# EAGLE library part AD8278 (library Eagle_CAD_parts)
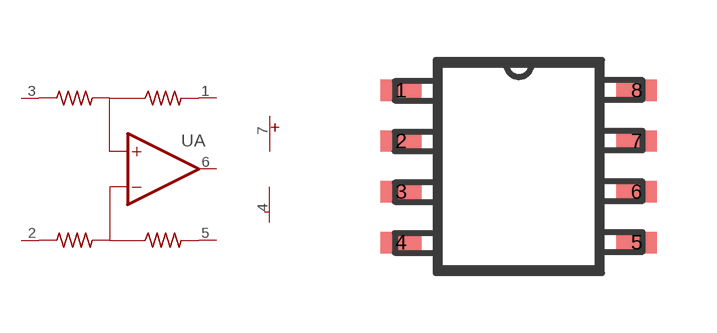
[diagram p87: symbol with the pads of 8-SO; footprint 8-SO]

Designator prefix -; gates A=OPAMP-DIFF G$1=ALIMENTACION

## AD8278ARZ (DIGIKEY_PART_NUMBER: AD8278ARZ-ND; MANUFACTURER_PART_NUMBER: AD8278ARZ; R1: 40 kOhm; R2: 20 kOhm; R3: 40 kOhm; R4: 20 kOhm; V_SUP: 2.7 V ~ 36V)  [8-SO]
1  A:REF
2  A:-IN  in
3  A:+IN  in
4  G$1:V-  pwr
5  A:SENSE
6  A:OUT  oc
7  G$1:V+  pwr

## Footprint 8-SO (pad centres in mm)
smd 1.016 x 0.533: 1 -2.946,1.905; 2 -2.946,0.635; 3 -2.946,-0.635; 4 -2.946,-1.905; 5 2.946,-1.905; 6 2.946,-0.635; 7 2.946,0.635; 8 2.946,1.905